# EAGLE library part AD8402 (library Radicon)
AD8402 Digital Potentiometer
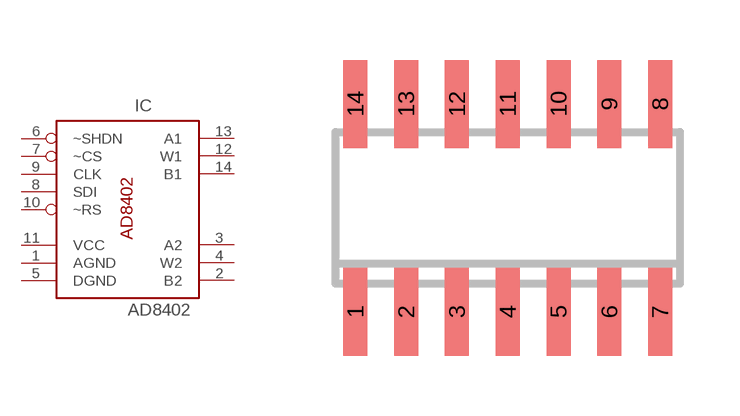
[diagram p2: symbol with the pads of SO14; footprint SO14]

Designator prefix IC

## AD8402  [SO14]
1  AGND
2  B2
3  A2
4  W2
5  DGND
6  ~SHDN
7  ~CS
8  SDI
9  CLK
10  ~RS
11  VCC
12  W1
13  A1
14  B1

## Footprint SO14 (pad centres in mm)
Small Outline Package 14
smd 0.6 x 2.2: 1 -3.81,-2.6; 2 -2.54,-2.6; 3 -1.27,-2.6; 4 0,-2.6; 5 1.27,-2.6; 6 2.54,-2.6; 7 3.81,-2.6; 8 3.81,2.6; 9 2.54,2.6; 10 1.27,2.6; 11 0,2.6; 12 -1.27,2.6; 13 -2.54,2.6; 14 -3.81,2.6